# Altium footprint library 1.69寸电容触摸屏.PcbLib: 1 footprints
Each footprint in its own frame and in the unit in brackets; x right, y up, seen from the top. Pads: shape width x height; smd on the part's side, far side on the other; paste and mask are expansions set on the pad; w line width, h text height; cw(c..) or ccw(c..) is an arc to the next point about the centre after c.
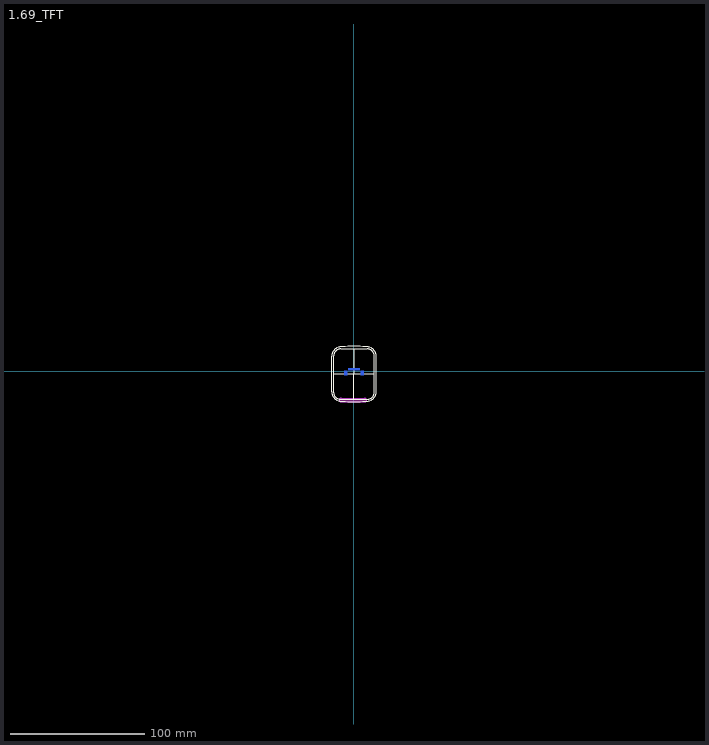
[diagram p0: the footprint, top view; thin cyan lines are the x and y axes]

## 1.69_TFT [mm] "1.69寸手表屏"
pads (20):
  rect 0.3x1.3 smd far side: 1(4.25,1.297) 2(3.75,1.297) 3(3.25,1.297) 4(2.75,1.297) 5(2.25,1.297) 6(1.75,1.297) 7(1.25,1.297) 8(0.75,1.297) 9(0.25,1.297) 10(-0.25,1.297) 11(-0.75,1.297) 12(-1.25,1.297) 13(-1.75,1.297) 14(-2.25,1.297) 15(-2.75,1.297) 16(-3.25,1.297) 17(-3.75,1.297) 18(-4.25,1.297)
  rect 2x3.3 smd far side: ""(-6.2,-1.297) ""(6.2,-1.297)
Top Overlay:
  lines w0.127: -15.039,-1.983 0,-1.983 15.033,-1.983 ; -0.005,-20.919 0.005,16.565 ; -16.564,-15.398 ccw(c-9.597,-15.398) -10.146,-22.343 ccw(c0.003,106.023) 10.152,-22.343 ccw(c9.603,-15.398) 16.571,-15.398 16.571,11.044 ccw(c9.603,11.044) 10.152,17.99 ccw(c0.003,-110.377) -10.146,17.99 ccw(c-9.597,11.044) -16.564,11.044 -16.564,-15.398 ; -15.039,-16.219 ccw(c-10.303,-16.183) -10.389,-20.919 10.383,-20.919 ccw(c10.296,-16.183) 15.033,-16.219 15.033,11.415 ccw(c9.883,11.415) 9.883,16.565 -9.889,16.565 ccw(c-9.889,11.415) -15.039,11.415 -15.039,-16.219
Bottom Overlay:
  circle w0.254: c5.283,1.676 r0.127
  lines w0.127: -6.675,-3.101 -6.675,-4.396 6.675,-4.396 6.675,-3.101 ; -6.655,0.506 -6.655,0.959 -4.643,0.959 ; 4.643,0.959 6.675,0.959 6.675,0.506
Keep-Out Layer:
  board cut-out: -9.641,-23.019 -9.819,-23.019 -10.165,-22.926 -10.474,-22.747 -10.727,-22.495 -10.906,-22.185 -10.998,-21.84 -10.998,-21.482 -10.906,-21.137 -10.727,-20.827 -10.474,-20.575 -10.165,-20.396 -9.819,-20.303 -9.641,-20.303 -9.647,-20.303 8.001,-20.303 8.017,-20.303 8.196,-20.303 8.541,-20.396 8.851,-20.575 9.104,-20.827 9.283,-21.137 9.375,-21.482 9.375,-21.84 9.283,-22.185 9.104,-22.495 8.851,-22.747 8.541,-22.926 8.196,-23.019 8.017,-23.019 8.001,-23.019
Keep-Out Layer:
  lines w0.127: -9.647,-23.019 8.001,-23.019 ; -9.647,-20.303 8.001,-20.303 ; -9.641,-23.019 cw(c-9.641,-21.661) -9.641,-20.303 ; 8.017,-23.019 ccw(c8.017,-21.661) 8.017,-20.303
Mechanical 1:
  lines w0.127: -9.653,-23.019 cw(c-9.653,-21.661) -9.653,-20.303 ; -9.647,-23.019 8.001,-23.019 ; -9.647,-20.303 8.001,-20.303 ; 8.006,-23.019 ccw(c8.006,-21.661) 8.006,-20.303
3D body "LCD1.69.STEP": height 4.66, standoff -3.09, extent -16.54,-23.647 16.59,18.605
3D body "FPC0.5-18P.STEP": height 2, standoff -0.01, extent -6.575,-4.457 6.625,1.543